# Altium footprint library finalPcbLib.PcbLib: 18 footprints (part 1 of 2)
Each footprint in its own frame and in the unit in brackets; x right, y up, seen from the top. Pads: shape width x height; smd on the part's side, far side on the other; paste and mask are expansions set on the pad; w line width, h text height; cw(c..) or ccw(c..) is an arc to the next point about the centre after c.
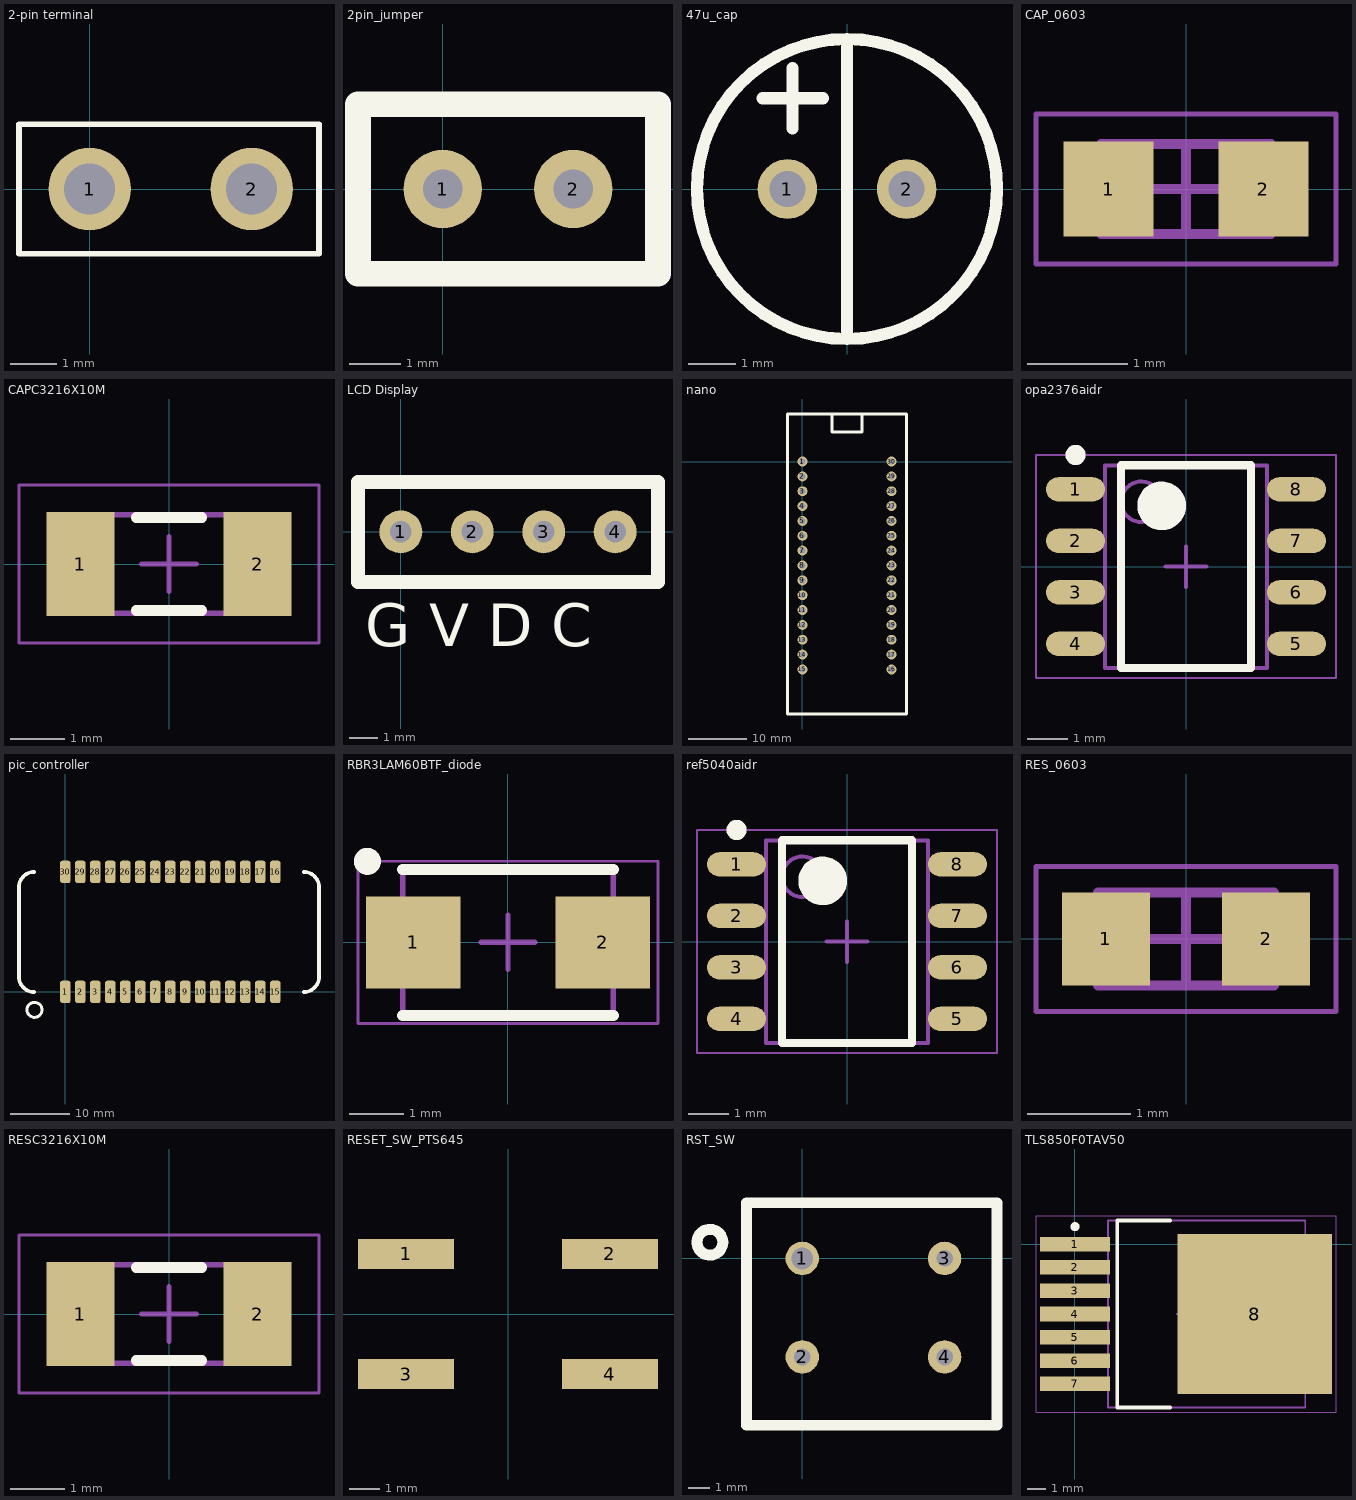
[diagram p0: the footprints below, top view; thin cyan lines are the x and y axes]

## 2-pin terminal [mil]
pads (2):
  round 70 hole 43.31: 1(0,0) 2(137.8,0)
Top Overlay:
  lines w5: -60,-55 195,-55 195,55 -60,55 -60,-55

## 2pin_jumper [mil]
pads (2):
  round 60 hole 30: 1(0,0) 2(100,0)
Top Overlay:
  lines w19.68: -65,-65 165,-65 165,65 -65,65 -65,-20 -65,-65

## 47u_cap [mm]
pads (2):
  round 1.25 hole 0.762: 1(-1.25,0) 2(1.25,0)
Top Overlay:
  circle w0.254: c0,0 r3.15
  lines w0.254: -1.778,1.905 -0.508,1.905 ; -1.143,1.27 -1.143,2.54 ; 0,-3.048 0,0 0,3.048

## CAP_0603 [mm] "Chip Capacitor, 2-Leads, Body 1.60x0.80mm, IPC Medium Density"
height 0.5
pads (2):
  rect 0.9x0.95 smd: 1(-0.775,0) 2(0.775,0)
Mechanical 13:
  lines w0.1: -0.85,-0.45 0.85,-0.45 0.85,0.45 -0.85,0.45 -0.85,-0.45
Mechanical 15:
  lines w0.05: -1.5,-0.75 1.5,-0.75 1.5,0.75 -1.5,0.75 -1.5,-0.75
  lines w0.1: -0.45,0 0.45,0 ; 0,-0.45 0,0.45
3D body "CAPC1608X05N.step": height 0.5, standoff 0, extent -0.85,-0.45 0.85,0.45

## CAPC3216X10M [mm] "Chip Capacitor, 2-Leads, Body 3.20x1.60mm, IPC Low Density"
height 0.95
pads (2):
  rect 1.25x1.9 smd: 1(-1.625,0) 2(1.625,0)
Top Overlay:
  lines w0.2: -0.6,-0.85 0.6,-0.85 ; -0.6,0.85 0.6,0.85
Mechanical 13:
  lines w0.1: -1.7,-0.9 1.7,-0.9 1.7,0.9 -1.7,0.9 -1.7,-0.9
Mechanical 15:
  lines w0.05: -2.75,-1.45 2.75,-1.45 2.75,1.45 -2.75,1.45 -2.75,-1.45
  lines w0.1: -0.5,0 0.5,0 ; 0,-0.5 0,0.5
3D body "CAPC3216X10M.step": height 0.95, standoff 0, extent -1.7,-0.9 1.7,0.9

## LCD Display [mil]
pads (4):
  round 60 hole 30: 1(0,0) 2(100,0) 3(200,0) 4(300,0)
Top Overlay:
  lines w19.68: -60,-70 -60,60 -60,70 360,70 360,-70 -60,-70
  text "G V D C" at -50,-160 h60

## nano [mm]
pads (30):
  round 1.7 hole 1: 1(0,0) 2(0,-2.54) 3(0,-5.08) 4(0,-7.62) 5(0,-10.16) 6(0,-12.7) 7(0,-15.24) 8(0,-17.78) 9(0,-20.32) 10(0,-22.86) 11(0,-25.4) 12(0,-27.94) 13(0,-30.48) 14(0,-33.02) 15(0,-35.56) 16(15.24,-35.56) 17(15.24,-33.02) 18(15.24,-30.48) 19(15.24,-27.94) 20(15.24,-25.4) 21(15.24,-22.86) 22(15.24,-20.32) 23(15.24,-17.78) 24(15.24,-15.24) 25(15.24,-12.7) 26(15.24,-10.16) 27(15.24,-7.62) 28(15.24,-5.08) 29(15.24,-2.54) 30(15.24,0)
Top Overlay:
  lines w0.5: 5.08,8.128 5.08,5.08 10.16,5.08 10.16,8.128 ; -2.54,-43.18 17.78,-43.18 17.78,8.128 -2.54,8.128 -2.54,-43.18
3D body "PIC16F18446_Curiosity_Nano(Default Assembly).step": height 5.07, standoff -0.01, extent -2.54,-43.171 17.78,8.128

## opa2376aidr [mm] "SOIC, 8-Leads, Body 4.91x3.90mm, Pitch 1.27mm, IPC Medium Density"
height 1.75
pads (8):
  oval 1.45x0.6 smd: 1(-2.725,1.905) 2(-2.725,0.635) 3(-2.725,-0.635) 4(-2.725,-1.905) 5(2.725,-1.905) 6(2.725,-0.635) 7(2.725,0.635) 8(2.725,1.905)
Top Overlay:
  circle w0.6: c-0.6,1.5 r0.3
  circle w0.25: c-2.725,2.755 r0.125
  lines w0.2: -1.6,-2.5 1.6,-2.5 1.6,2.5 -1.6,2.5 -1.6,-2.5
Mechanical 13:
  circle w0.1: c-1.1,1.6 r0.5
  lines w0.1: -2,-2.5 2,-2.5 2,2.5 -2,2.5 -2,-2.5
Mechanical 15:
  lines w0.05: -3.7,-2.75 3.7,-2.75 3.7,2.75 -3.7,2.75 -3.7,-2.75
  lines w0.1: -0.5,0 0.5,0 ; 0,-0.5 0,0.5
3D body "SOIC127P600X175-8N.step": height 1.75, standoff 0, extent -2.997,-2.5 2.997,2.5

## pic_controller [mil]
pads (30):
  rrect50% 70x150 smd: 1(0,0) 2(100,0) 3(200,0) 4(300,0) 5(400,0) 6(500,0) 7(600,0) 8(700,0) 9(800,0) 10(900,0) 11(1000,0) 12(1100,0) 13(1200,0) 14(1300,0) 15(1400,0) 16(1400,800) 17(1300,800) 18(1200,800) 19(1100,800) 20(1000,800) 21(900,800) 22(800,800) 23(700,800) 24(600,800) 25(500,800) 26(400,800) 27(300,800) 28(200,800) 29(100,800) 30(0,800)
Top Overlay:
  circle w20: c-205,-120 r50
  lines w25: -208.54,-0.67 cw(c-208.54,99.33) -308.54,99.33 -308.54,699.33 cw(c-208.54,699.33) -208.54,799.33 ; 1591.46,-0.67 ccw(c1591.46,99.33) 1691.46,99.33 1691.46,699.33 ccw(c1591.46,699.33) 1591.46,799.33
3D body "PIC16F18446_Curiosity_Nano_release_rev7.step": height 199.61, standoff -0.56, extent -319.64,0.01 1700.01,800.01

## RBR3LAM60BTF_diode [mm] "SODFL, 2-Leads, Body 2.50x4.70mm, IPC Medium Density"
height 1.05
pads (2):
  rect 1.75x1.7 smd: 1(-1.75,0) 2(1.75,0)
Top Overlay:
  circle w0.25: c-2.6,1.5 r0.125
  lines w0.2: -1.95,-1.35 1.95,-1.35 ; -1.95,1.35 1.95,1.35
Mechanical 13:
  lines w0.1: -1.95,-1.35 1.95,-1.35 1.95,1.35 -1.95,1.35 -1.95,-1.35
Mechanical 15:
  lines w0.05: -2.775,-1.5 2.775,-1.5 2.775,1.5 -2.775,1.5 -2.775,-1.5
  lines w0.1: -0.5,0 0.5,0 ; 0,-0.5 0,0.5
3D body "SODFL470X105-2N.step": height 1.05, standoff 0, extent -2.35,-1.35 2.35,1.35

## ref5040aidr [mm] "SOIC, 8-Leads, Body 4.91x3.90mm, Pitch 1.27mm, IPC Medium Density"
height 1.75
pads (8):
  oval 1.45x0.6 smd: 1(-2.725,1.905) 2(-2.725,0.635) 3(-2.725,-0.635) 4(-2.725,-1.905) 5(2.725,-1.905) 6(2.725,-0.635) 7(2.725,0.635) 8(2.725,1.905)
Top Overlay:
  circle w0.25: c-2.725,2.755 r0.125
  circle w0.6: c-0.6,1.5 r0.3
  lines w0.2: -1.6,-2.5 -1.6,2.5 1.6,2.5 1.6,-2.5 -1.6,-2.5
Mechanical 13:
  circle w0.1: c-1.1,1.6 r0.5
  lines w0.1: -2,-2.5 -2,2.5 2,2.5 2,-2.5 -2,-2.5
Mechanical 15:
  lines w0.05: -3.7,-2.75 -3.7,2.75 3.7,2.75 3.7,-2.75 -3.7,-2.75
  lines w0.1: -0.5,0 0.5,0 ; 0,-0.5 0,0.5
3D body "SOIC127P600X175-8N.step": height 1.75, standoff 0, extent -2.997,-2.5 2.997,2.5

## RES_0603 [mm] "Chip Resistor, 2-Leads, Body 1.60x0.80mm, IPC Medium Density"
height 0.5
pads (2):
  rect 0.85x0.9 smd: 1(-0.775,0) 2(0.775,0)
Mechanical 13:
  lines w0.1: -0.85,-0.45 0.85,-0.45 0.85,0.45 -0.85,0.45 -0.85,-0.45
Mechanical 15:
  lines w0.05: -1.45,-0.7 1.45,-0.7 1.45,0.7 -1.45,0.7 -1.45,-0.7
  lines w0.1: -0.45,0 0.45,0 ; 0,-0.45 0,0.45
3D body "RESC1608X05N.step": height 0.5, standoff 0, extent -0.85,-0.45 0.85,0.45

## RESC3216X10M [mm] "Chip Resistor, 2-Leads, Body 3.20x1.60mm, IPC Low Density"
height 0.95
pads (2):
  rect 1.25x1.9 smd: 1(-1.625,0) 2(1.625,0)
Top Overlay:
  lines w0.2: -0.6,-0.85 0.6,-0.85 ; -0.6,0.85 0.6,0.85
Mechanical 13:
  lines w0.1: -1.7,-0.9 1.7,-0.9 1.7,0.9 -1.7,0.9 -1.7,-0.9
Mechanical 15:
  lines w0.05: -2.75,-1.45 2.75,-1.45 2.75,1.45 -2.75,1.45 -2.75,-1.45
  lines w0.1: -0.5,0 0.5,0 ; 0,-0.5 0,0.5
3D body "RESC3216X10M.step": height 0.95, standoff 0, extent -1.7,-0.9 1.7,0.9

## RESET_SW_PTS645 [mm]
pads (4):
  rect 3.2x1 smd: 1(-3.4,2) 2(3.4,2) 3(-3.4,-2) 4(3.4,-2)

## RST_SW [mil]
pads (4):
  round 60 hole 39.37: 1(0,0)
  round 60 hole 30: 2(0,-177.17) 3(255.91,0) 4(255.91,-177.17)
Top Overlay:
  circle w19.68: c-166,29 r23.26
  lines w19.68: -100,-300 350,-300 350,100 -100,100 -100,-300

## TLS850F0TAV50 [mm]
height 4.4
pads (8):
  rect 3.8x0.8 smd: 1(0,0) 2(0,-1.27) 3(0,-2.54) 4(0,-3.81) 5(0,-5.08) 6(0,-6.35) 7(0,-7.62)
  rect 8.4x8.7 smd: 8(9.8,-3.81)
Top Overlay:
  circle w0.25: c0,0.95 r0.125
  lines w0.2: 5.2,-8.91 2.3,-8.91 2.3,1.29 5.2,1.29
Mechanical 13:
  lines w0.1: 1.8,-8.91 12.55,-8.91 12.55,1.29 1.8,1.29 1.8,-8.91
Mechanical 15:
  lines w0.05: -2.125,-9.16 14.225,-9.16 14.225,1.54 -2.125,1.54 -2.125,-9.16
  lines w0.1: 5.55,-3.81 6.55,-3.81 ; 6.05,-4.31 6.05,-3.31
3D body "TO228P970-3N.step": height 4.5, standoff 0, extent -1.15,-8.91 13.85,1.29